# EAGLE library part ARDUINO-UNO-R3 (library Coert Vonk maybe old)
Footprint of Arduino R3 with two SPI headers Arduino Uno R3 Compatible Footprint. Matches PCB size of the original board.
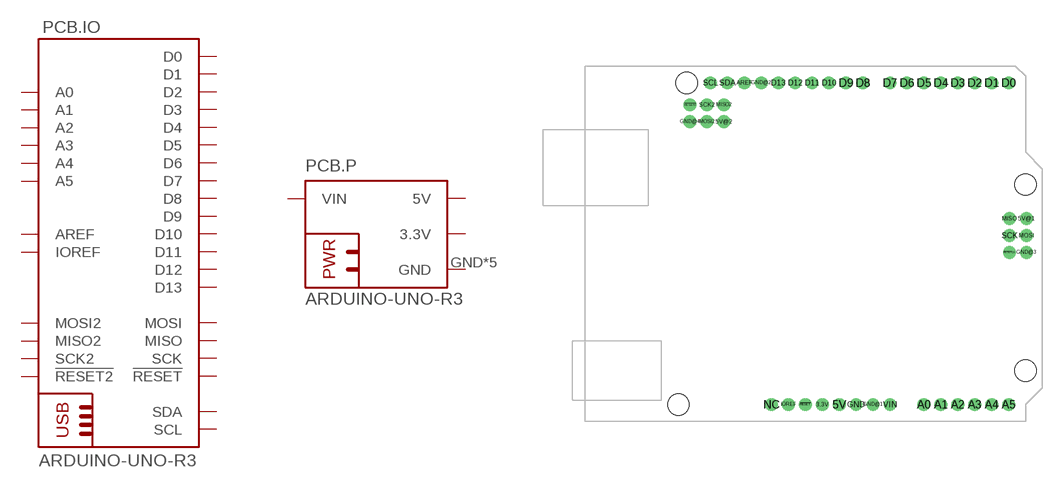
[diagram p16: symbol with the pads of ARDUINO-UNO--R3; footprint ARDUINO-UNO--R3]

Designator prefix PCB; gates .IO=ARDIONO-UNO-R3-IO .P=ARDUINO-UNO--R3-PWR

## ARDUINO-UNO-R3  [ARDUINO-UNO--R3]
3.3V  .P:3.3V  sup
5V  .P:5V  sup
5V@1  .P:5V  sup
5V@2  .P:5V  sup
!RESET2!  .IO:!RESET2!
!RESET!  .IO:!RESET!
!RESET!@1  .IO:!RESET!
A0  .IO:A0
A1  .IO:A1
A2  .IO:A2
A3  .IO:A3
A4  .IO:A4
A5  .IO:A5
AREF  .IO:AREF
D0  .IO:D0
D1  .IO:D1
D2  .IO:D2
D3  .IO:D3
D4  .IO:D4
D5  .IO:D5
D6  .IO:D6
D7  .IO:D7
D8  .IO:D8
D9  .IO:D9
D10  .IO:D10
D11  .IO:D11
D12  .IO:D12
D13  .IO:D13
GND  .P:GND  sup
GND@1  .P:GND  sup
GND@2  .P:GND  sup
GND@3  .P:GND  sup
GND@4  .P:GND  sup
IOREF  .IO:IOREF
MISO  .IO:MISO
MISO2  .IO:MISO2
MOSI  .IO:MOSI
MOSI2  .IO:MOSI2
SCK  .IO:SCK
SCK2  .IO:SCK2
SCL  .IO:SCL
SDA  .IO:SDA
VIN  .P:VIN  sup

## Footprint ARDUINO-UNO--R3 (pad centres in mm)
Arduino Uno R3 Footprint Includes mounting holes, and holes for ICSP header Specifications: Pin count: 38 Area:2.7x2.1in Datasheet referenced for footprint: Example device(s): Arduino Uno R3
drill 1.016 pad 1.93: 3.3V 2.54,-24.13; 5V 5.08,-24.13; 5V@1 33.16,3.76; 5V@2 -12.204,18.289; !RESET2! -17.284,20.829; !RESET! 0,-24.13; !RESET!@1 30.62,-1.32; A0 17.78,-24.13; A1 20.32,-24.13; A2 22.86,-24.13; A3 25.4,-24.13; A4 27.94,-24.13; A5 30.48,-24.13; AREF -9.144,24.13; D0 30.48,24.13; D1 27.94,24.13; D2 25.4,24.13; D3 22.86,24.13; D4 20.32,24.13; D5 17.78,24.13; D6 15.24,24.13; D7 12.7,24.13; D8 8.636,24.13; D9 6.096,24.13; D10 3.556,24.13; D11 1.016,24.13; D12 -1.524,24.13; D13 -4.064,24.13; GND 7.62,-24.13; GND@1 10.16,-24.13; GND@2 -6.604,24.13; GND@3 33.16,-1.32; GND@4 -17.284,18.289; IOREF -2.54,-24.13; MISO 30.62,3.76; MISO2 -12.204,20.829; MOSI 33.16,1.22; MOSI2 -14.744,18.289; NC -5.08,-24.13; SCK 30.62,1.22; SCK2 -14.744,20.829; SCL -14.224,24.13; SDA -11.684,24.13; VIN 12.7,-24.13
hole 3.175 at -17.78,24.13
hole 3.175 at 33.02,8.89
hole 3.175 at 33.02,-19.05
hole 3.175 at -19.05,-24.13